# Altium footprint library Resistors_TH.PcbLib: 1 footprints
Each footprint in its own frame and in the unit in brackets; x right, y up, seen from the top. Pads: shape width x height; smd on the part's side, far side on the other; paste and mask are expansions set on the pad; w line width, h text height; cw(c..) or ccw(c..) is an arc to the next point about the centre after c.
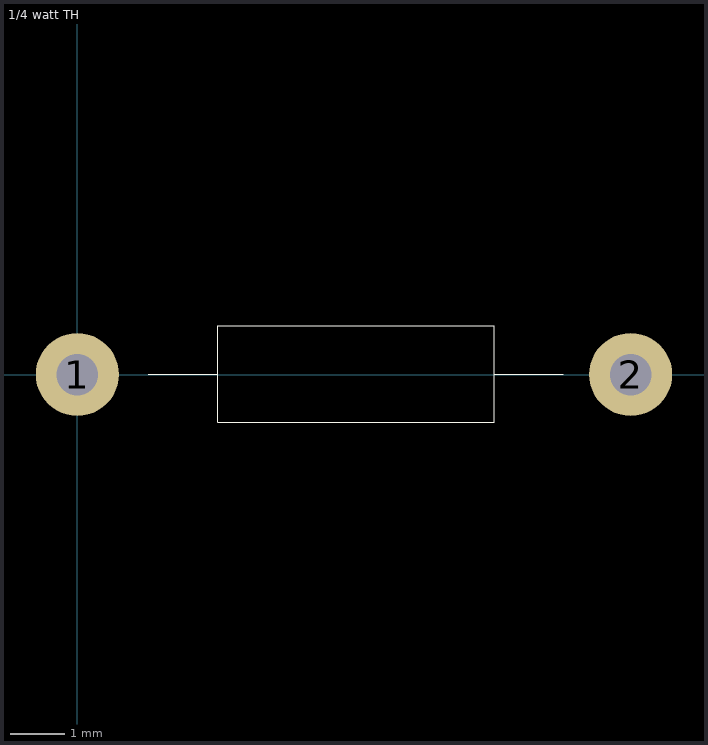
[diagram p0: the footprint, top view; thin cyan lines are the x and y axes]

## 1/4 watt TH [mil]
pads (2):
  round 60 hole 30: 1(0,0) 2(400,0)
Top Overlay:
  lines w0.51: 51.4,0.43 101.4,0.43 ; 301.4,0.43 351.4,0.43 ; 101.4,0.43 101.4,35.43 301.4,35.43 301.4,-34.57 101.4,-34.57 101.4,0.43
3D body "User Library-1_4 Watt.STEP": height 42.72, standoff -196.85, extent -9.75,-42.21 410.33,43.24